# Altium footprint library HBRIDGE_PCB_LIB.PcbLib: 18 footprints (part 2 of 2)
Each footprint in its own frame and in the unit in brackets; x right, y up, seen from the top. Pads: shape width x height; smd on the part's side, far side on the other; paste and mask are expansions set on the pad; w line width, h text height; cw(c..) or ccw(c..) is an arc to the next point about the centre after c.
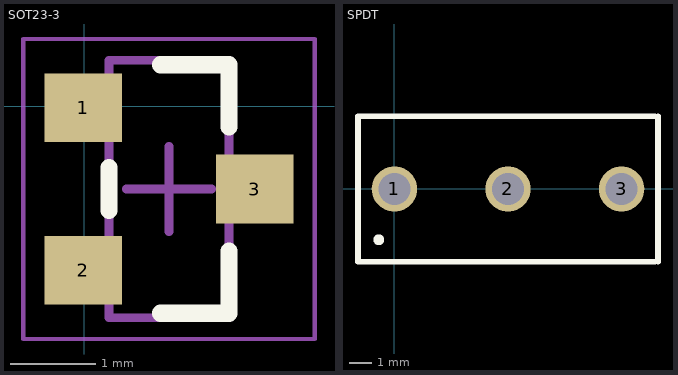
[diagram p1: the footprints below, top view; thin cyan lines are the x and y axes]

## SOT23-3 [mm]
pads (3):
  rect 0.9x0.8 smd: 1(-0.014,-0.016) 2(-0.014,-1.916) 3(1.986,-0.966)
Top Overlay:
  lines w0.2: 0.286,-1.216 0.286,-0.716 ; 0.886,-2.416 1.686,-2.416 1.686,-1.691 ; 0.886,0.484 1.686,0.484 1.686,-0.241
Mechanical 13:
  lines w0.1: 0.286,-2.466 0.286,0.534 1.686,0.534 1.686,-2.466 0.286,-2.466
Mechanical 15:
  lines w0.05: -0.714,-2.716 2.686,-2.716 2.686,0.784 -0.714,0.784 -0.714,-2.716
  lines w0.1: 0.486,-0.966 1.486,-0.966 ; 0.986,-1.466 0.986,-0.466
3D body "sot-23-3-infineon.STEP": height 1, standoff 0, extent -0.174,-2.416 2.146,0.484

## SPDT [mm]
pads (3):
  round 2 hole 1.4: 1(0,0) 2(5,0) 3(10,0)
Top Overlay:
  circle w0.254: c-0.69,-2.235 r0.113
  lines w0.254: 11.477,-3.2 -1.604,-3.2 -1.604,3.2 11.477,3.2 ; 11.604,-3.2 11.604,-1.6 11.604,1.6 11.604,3.2